# Altium schematic symbol library Inductor.SchLib: 22 symbols
Pins are listed as number, name and electrical type; pins without a type are passive.

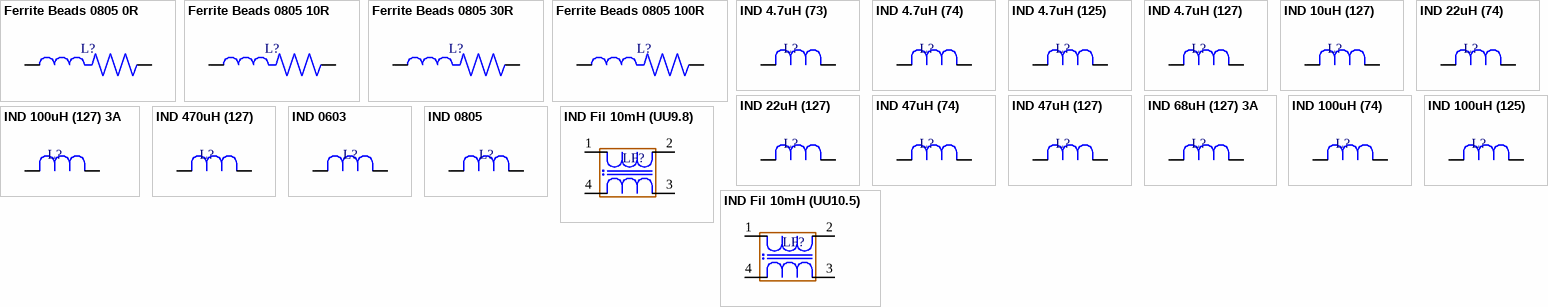
[diagram p0: symbols Ferrite Beads 0805 0R to IND Fil 10mH (UU10.5)]

## Ferrite Beads 0805 0R
designator L?, comment 0R  (value not drawn)
SMD
footprint Ferrite Beads 0805
pins: 1, 2

## Ferrite Beads 0805 10R
designator L?, comment 10R  (value not drawn)
SMD
footprint Ferrite Beads 0805
pins: 1, 2

## Ferrite Beads 0805 30R
designator L?, comment 30R  (value not drawn)
SMD
footprint Ferrite Beads 0805
pins: 1, 2

## Ferrite Beads 0805 100R
designator L?, comment 100R  (value not drawn)
SMD
footprint Ferrite Beads 0805
pins: 1, 2

## IND 4.7uH (73)
designator L?, comment 4.7uH  (value not drawn)
SMD
footprint IND 7x7x3
pins: 1, 2

## IND 4.7uH (74)
designator L?, comment 4.7uH  (value not drawn)
SMD
footprint IND 7x7x4
pins: 1, 2

## IND 4.7uH (125)
designator L?, comment 4.7uH  (value not drawn)
SMD
footprint IND 12x12x5
pins: 1, 2

## IND 4.7uH (127)
designator L?, comment 4.7uH  (value not drawn)
SMD
footprint IND 12x12x7
pins: 1, 2

## IND 10uH (127)
designator L?, comment 10uH  (value not drawn)
SMD
footprint IND 12x12x7
pins: 1, 2

## IND 22uH (74)
designator L?, comment 22uH  (value not drawn)
SMD
footprint IND 7x7x4
pins: 1, 2

## IND 22uH (127)
designator L?, comment 22uH  (value not drawn)
SMD
footprint IND 12x12x7
pins: 1, 2

## IND 47uH (74)
designator L?, comment 47uH  (value not drawn)
SMD
footprint IND 7x7x4
pins: 1, 2

## IND 47uH (127)
designator L?, comment 47uH  (value not drawn)
SMD
footprint IND 12x12x7
pins: 1, 2

## IND 68uH (127) 3A
designator L?, comment 68uH  (value not drawn)
SMD
footprint IND 12x12x7
pins: 1, 2

## IND 100uH (74)
designator L?, comment 100uH  (value not drawn)
SMD
footprint IND 7x7x4
pins: 1, 2

## IND 100uH (125)
designator L?, comment 100uH  (value not drawn)
SMD
footprint IND 12x12x5
pins: 1, 2

## IND 100uH (127) 3A
designator L?, comment 100uH  (value not drawn)
SMD
footprint IND 12x12x7
pins: 1, 2

## IND 470uH (127)
designator L?, comment 470uH  (value not drawn)
SMD
footprint IND 12x12x7
pins: 1, 2

## IND 0603
designator L?, comment uH  (value not drawn)
SMD
footprint IND 0603
pins: 1, 2

## IND 0805
designator L?  (value not drawn)
SMD
footprint IND 0805
pins: 1, 2

## IND Fil 10mH (UU9.8)
designator LF?, comment 10mH  (value not drawn)
DIP
footprint IND Filter UU9.8
pins: 1, 2, 3, 4

## IND Fil 10mH (UU10.5)
designator LF?, comment 10mH  (value not drawn)
DIP
footprint IND filter UU10.5
pins: 1, 2, 3, 4